# Altium schematic symbol library su-03t.SchLib: 1 symbol
Pins are listed as number, name and electrical type; pins without a type are passive.

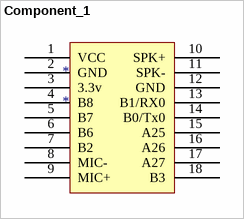
[diagram p0: symbol Component_1]

## Component_1
designator *
pins: 1 VCC, 2 GND, 3 3.3v, 4 B8, 5 B7, 6 B6, 7 B2, 8 MIC-, 9 MIC+, 10 SPK+, 11 SPK-, 12 GND, 13 B1/RX0, 14 B0/Tx0, 15 A25, 16 A26, 17 A27, 18 B3